# Altium schematic symbol library IC_MCP1700.SchLib: 1 symbol
Pins are listed as number, name and electrical type; pins without a type are passive.

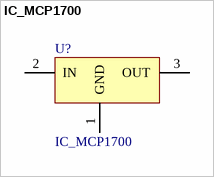
[diagram p0: symbol IC_MCP1700]

## IC_MCP1700
designator U?
Positive Voltage Regulator
pins: 1 GND (power), 2 IN (power), 3 OUT (power)